# Altium schematic symbol library DS3231.SCHLIB: 1 symbol
Pins are listed as number, name and electrical type; pins without a type are passive.

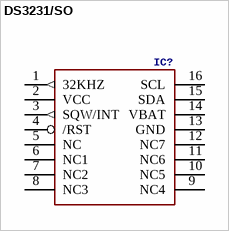
[diagram p0: symbol DS3231/SO]

## DS3231/SO
designator IC?, comment Check availability  (value not drawn)
GateName_1: G$1; SymbolName_1: DS3231; DeviceName: /SO; Description: Real Time Clock (RTC) IC Clock/Calendar - I²C, 2-Wire Serial 8-SOIC (0.154, 3.90mm Width); MF: Maxim Integrated; LibraryName: DS3231; DeviceSetName: DS3231; Package: SOIC-16 Maxim Integrated; MP: DS3231; Purchase-URL: https://pricing.snapeda.com/search/part/DS3231/?ref=eda; Availability: In Stock; Price: None
footprint SO16W
pins: 1 32KHZ (out), 2 VCC (power), 3 SQW/INT (out), 4 /RST, 5 NC, 6 NC1, 7 NC2, 8 NC3, 9 NC4, 10 NC5, 11 NC6, 12 NC7, 13 GND (power), 14 VBAT (power), 15 SDA, 16 SCL